# Altium schematic symbol library IND,1.5nH,1A,Multilayer,0402.Schlib: 1 symbol
Pins are listed as number, name and electrical type; pins without a type are passive.

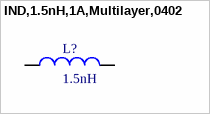
[diagram p0: symbol IND,1.5nH,1A,Multilayer,0402]

## IND,1.5nH,1A,Multilayer,0402
designator L?, comment 1.5nH
1.5nH Unshielded Multilayer Inductor 1A 100mOhm Max 0402 (1005 Metric)
pins: 1, 2